# EAGLE library part MPU-9250 (library icarus_sensors)
The MPU-9250 is a 9-axis motion sensor that contains an accelerometer/gyro sensor (MPU-6500) combined with a magnetometer (AK8963).
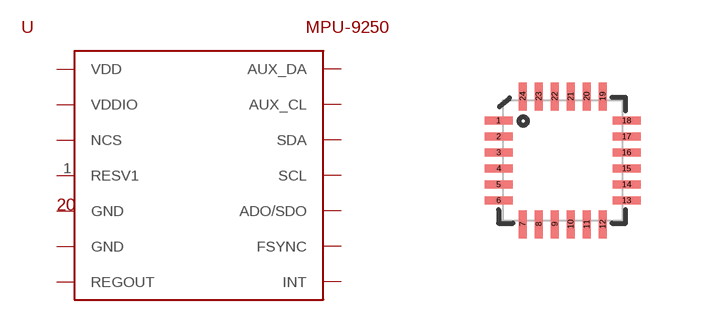
[diagram p0: symbol with the pads of MPU-9250; footprint MPU-9250]

Designator prefix U

## MPU-9250  [MPU-9250]
1  RESV1  pwr
7  AUX_CL
8  VDDIO  pwr
9  ADO/SDO
10  REGOUT
11  FSYNC
12  INT
13  VDD  pwr
18  GND  pwr
20  GND  pwr
21  AUX_DA
22  NCS
23  SCL
24  SDA

## Footprint MPU-9250 (pad centres in mm)
QFN-24NP package for the MPU-9250 based on data in the product specification
smd 0.7 x 0.2: 1 -1.6,1; 2 -1.6,0.6; 3 -1.6,0.2; 4 -1.6,-0.2; 5 -1.6,-0.6; 6 -1.6,-1; 13 1.6,-1; 14 1.6,-0.6; 15 1.6,-0.2; 16 1.6,0.2; 17 1.6,0.6; 18 1.6,1
smd 0.2 x 0.7: 7 -1,-1.6; 8 -0.6,-1.6; 9 -0.2,-1.6; 10 0.2,-1.6; 11 0.6,-1.6; 12 1,-1.6; 19 1,1.6; 20 0.6,1.6; 21 0.2,1.6; 22 -0.2,1.6; 23 -0.6,1.6; 24 -1,1.6